# Altium footprint library TerminalBlock_Phoenix.PcbLib: 126 footprints (part 4 of 8)
Each footprint in its own frame and in the unit in brackets; x right, y up, seen from the top. Pads: shape width x height; smd on the part's side, far side on the other; paste and mask are expansions set on the pad; w line width, h text height; cw(c..) or ccw(c..) is an arc to the next point about the centre after c.
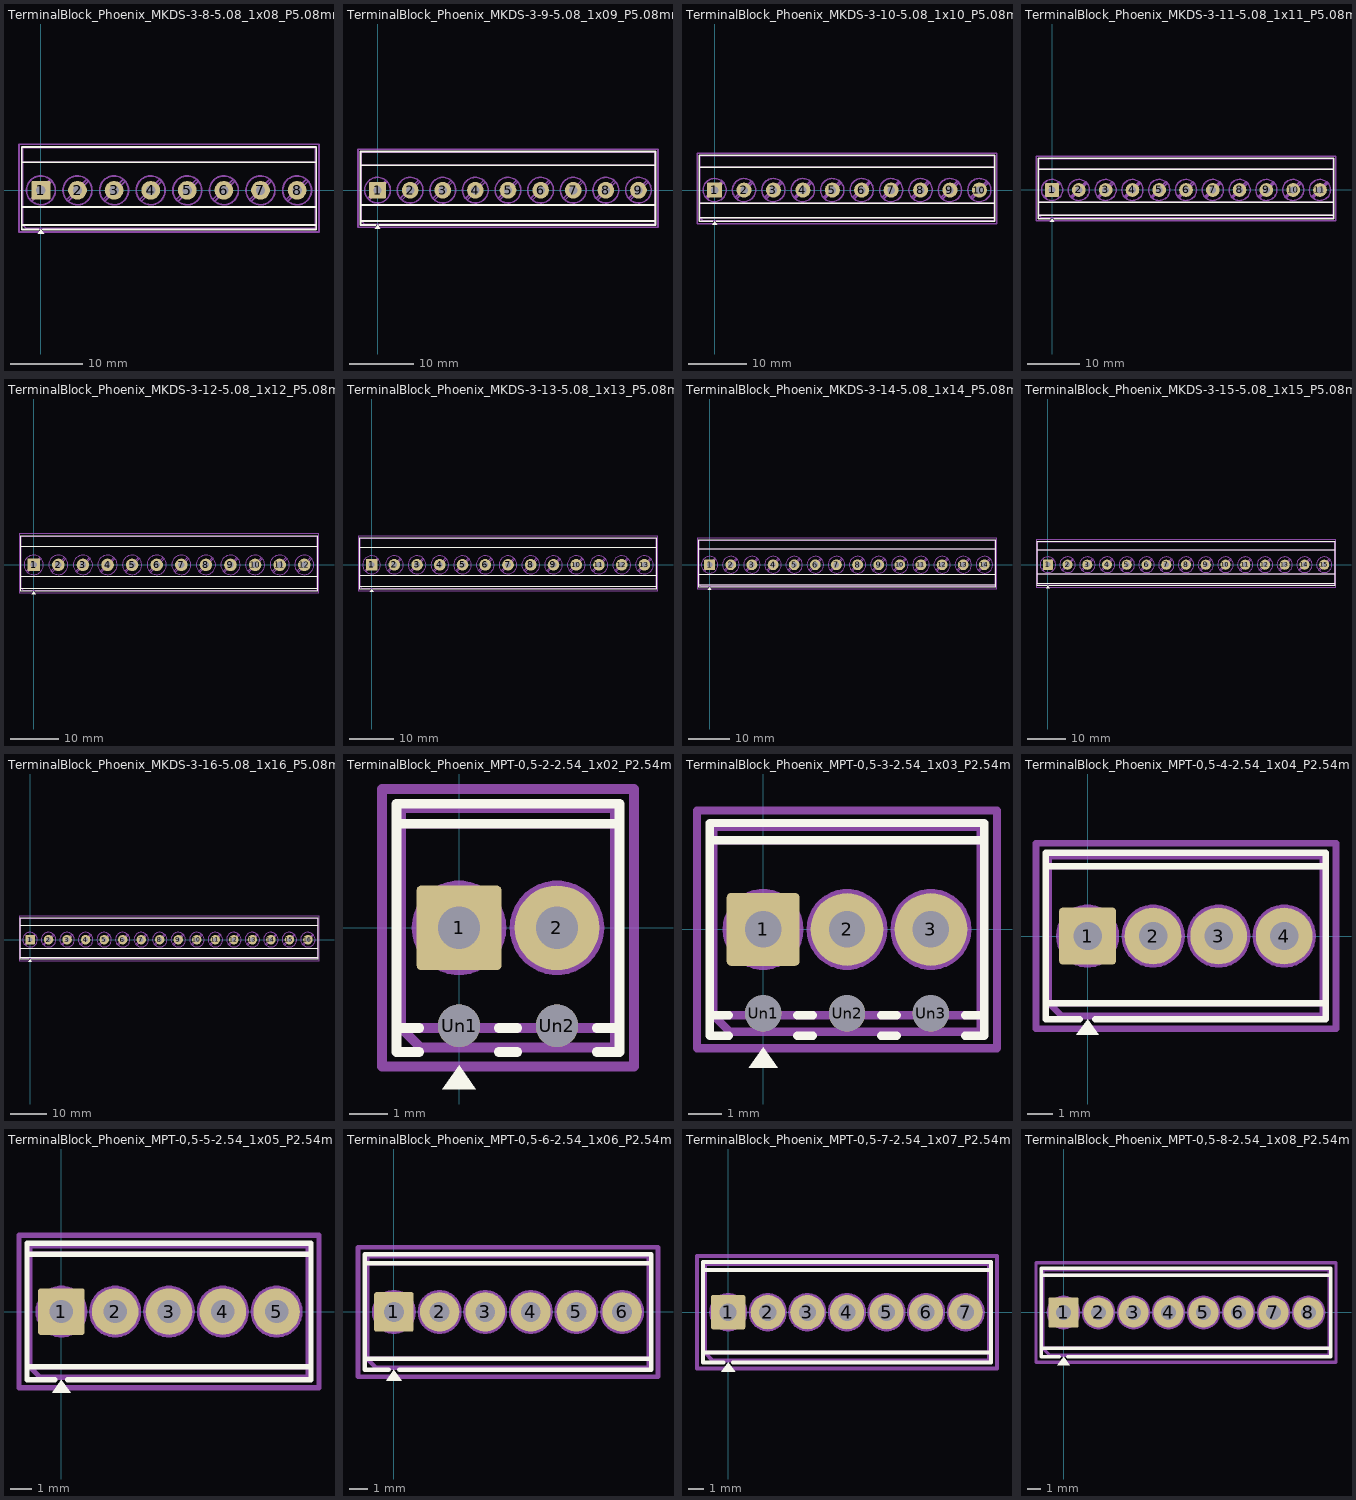
[diagram p3: the footprints below, top view; thin cyan lines are the x and y axes]

## TerminalBlock_Phoenix_MKDS-3-8-5.08_1x08_P5.08mm_Horizontal [mm]
pads (8):
  rrect10% 2.6x2.6 hole 1.3: 1(0,0)
  round 2.6 hole 1.3: 2(5.08,0) 3(10.16,0) 4(15.24,0) 5(20.32,0) 6(25.4,0) 7(30.48,0) 8(35.56,0)
F.SilkS:
  region: 0.44,-6.03 -0.44,-6.03 0,-5.42
  lines w0.254: -2.66,-4.8 38.22,-4.8 ; -2.66,-2.3 38.22,-2.3 ; -2.66,3.9 38.22,3.9 ; -0.3,-5.42 -2.66,-5.42 -2.66,6.02 38.22,6.02 38.22,-5.42 0.3,-5.42
F.Fab:
  circle w0.254: c0,0 r2
  circle w0.254: c5.08,0 r2
  circle w0.254: c10.16,0 r2
  circle w0.254: c15.24,0 r2
  circle w0.254: c20.32,0 r2
  circle w0.254: c25.4,0 r2
  circle w0.254: c30.48,0 r2
  circle w0.254: c35.56,0 r2
  lines w0.254: -2.54,-2.3 38.1,-2.3 ; -2.54,3.9 38.1,3.9 ; -1.517,-1.273 1.273,1.517 ; -1.273,-1.517 1.517,1.273 ; 3.563,-1.273 6.353,1.517 ; 3.807,-1.517 6.597,1.273 ; 8.643,-1.273 11.433,1.517 ; 8.887,-1.517 11.677,1.273 ; 13.723,-1.273 16.513,1.517 ; 13.967,-1.517 16.757,1.273 ; 18.803,-1.273 21.593,1.517 ; 19.047,-1.517 21.837,1.273 ; 23.883,-1.273 26.673,1.517 ; 24.127,-1.517 26.917,1.273 ; 28.963,-1.273 31.753,1.517 ; 29.207,-1.517 31.997,1.273 ; 34.043,-1.273 36.833,1.517 ; 34.287,-1.517 37.077,1.273 ; 38.1,-4.8 -2.54,-4.8 ; -2.54,-4.8 -2.54,5.9 38.1,5.9 38.1,-5.3 -2.04,-5.3 -2.54,-4.8
  text "'.Designator'" at 13.733,-3.94 h1
F.CrtYd:
  lines w0.254: -3.04,-5.8 -3.04,6.4 38.6,6.4 38.6,-5.8 -3.04,-5.8

## TerminalBlock_Phoenix_MKDS-3-9-5.08_1x09_P5.08mm_Horizontal [mm]
pads (9):
  rrect10% 2.6x2.6 hole 1.3: 1(0,0)
  round 2.6 hole 1.3: 2(5.08,0) 3(10.16,0) 4(15.24,0) 5(20.32,0) 6(25.4,0) 7(30.48,0) 8(35.56,0) 9(40.64,0)
F.SilkS:
  region: 0.44,-6.03 -0.44,-6.03 0,-5.42
  lines w0.254: -2.66,-4.8 43.3,-4.8 ; -2.66,-2.3 43.3,-2.3 ; -2.66,3.9 43.3,3.9 ; -0.3,-5.42 -2.66,-5.42 -2.66,6.02 43.3,6.02 43.3,-5.42 0.3,-5.42
F.Fab:
  circle w0.254: c0,0 r2
  circle w0.254: c5.08,0 r2
  circle w0.254: c10.16,0 r2
  circle w0.254: c15.24,0 r2
  circle w0.254: c20.32,0 r2
  circle w0.254: c25.4,0 r2
  circle w0.254: c30.48,0 r2
  circle w0.254: c35.56,0 r2
  circle w0.254: c40.64,0 r2
  lines w0.254: -2.54,-2.3 43.18,-2.3 ; -2.54,3.9 43.18,3.9 ; -1.517,-1.273 1.273,1.517 ; -1.273,-1.517 1.517,1.273 ; 3.563,-1.273 6.353,1.517 ; 3.807,-1.517 6.597,1.273 ; 8.643,-1.273 11.433,1.517 ; 8.887,-1.517 11.677,1.273 ; 13.723,-1.273 16.513,1.517 ; 13.967,-1.517 16.757,1.273 ; 18.803,-1.273 21.593,1.517 ; 19.047,-1.517 21.837,1.273 ; 23.883,-1.273 26.673,1.517 ; 24.127,-1.517 26.917,1.273 ; 28.963,-1.273 31.753,1.517 ; 29.207,-1.517 31.997,1.273 ; 34.043,-1.273 36.833,1.517 ; 34.287,-1.517 37.077,1.273 ; 39.123,-1.273 41.913,1.517 ; 39.367,-1.517 42.157,1.273 ; 43.18,-4.8 -2.54,-4.8 ; -2.54,-4.8 -2.54,5.9 43.18,5.9 43.18,-5.3 -2.04,-5.3 -2.54,-4.8
  text "'.Designator'" at 16.273,-3.94 h1
F.CrtYd:
  lines w0.254: -3.04,-5.8 -3.04,6.4 43.68,6.4 43.68,-5.8 -3.04,-5.8

## TerminalBlock_Phoenix_MKDS-3-10-5.08_1x10_P5.08mm_Horizontal [mm]
pads (10):
  rrect10% 2.6x2.6 hole 1.3: 1(0,0)
  round 2.6 hole 1.3: 2(5.08,0) 3(10.16,0) 4(15.24,0) 5(20.32,0) 6(25.4,0) 7(30.48,0) 8(35.56,0) 9(40.64,0) 10(45.72,0)
F.SilkS:
  region: 0.44,-6.03 -0.44,-6.03 0,-5.42
  lines w0.254: -2.66,-4.8 48.38,-4.8 ; -2.66,-2.3 48.38,-2.3 ; -2.66,3.9 48.38,3.9 ; -0.3,-5.42 -2.66,-5.42 -2.66,6.02 48.38,6.02 48.38,-5.42 0.3,-5.42
F.Fab:
  circle w0.254: c0,0 r2
  circle w0.254: c5.08,0 r2
  circle w0.254: c10.16,0 r2
  circle w0.254: c15.24,0 r2
  circle w0.254: c20.32,0 r2
  circle w0.254: c25.4,0 r2
  circle w0.254: c30.48,0 r2
  circle w0.254: c35.56,0 r2
  circle w0.254: c40.64,0 r2
  circle w0.254: c45.72,0 r2
  lines w0.254: -2.54,-2.3 48.26,-2.3 ; -2.54,3.9 48.26,3.9 ; -1.517,-1.273 1.273,1.517 ; -1.273,-1.517 1.517,1.273 ; 3.563,-1.273 6.353,1.517 ; 3.807,-1.517 6.597,1.273 ; 8.643,-1.273 11.433,1.517 ; 8.887,-1.517 11.677,1.273 ; 13.723,-1.273 16.513,1.517 ; 13.967,-1.517 16.757,1.273 ; 18.803,-1.273 21.593,1.517 ; 19.047,-1.517 21.837,1.273 ; 23.883,-1.273 26.673,1.517 ; 24.127,-1.517 26.917,1.273 ; 28.963,-1.273 31.753,1.517 ; 29.207,-1.517 31.997,1.273 ; 34.043,-1.273 36.833,1.517 ; 34.287,-1.517 37.077,1.273 ; 39.123,-1.273 41.913,1.517 ; 39.367,-1.517 42.157,1.273 ; 44.203,-1.273 46.993,1.517 ; 44.447,-1.517 47.237,1.273 ; 48.26,-4.8 -2.54,-4.8 ; -2.54,-4.8 -2.54,5.9 48.26,5.9 48.26,-5.3 -2.04,-5.3 -2.54,-4.8
  text "'.Designator'" at 18.813,-3.94 h1
F.CrtYd:
  lines w0.254: -3.04,-5.8 -3.04,6.4 48.76,6.4 48.76,-5.8 -3.04,-5.8

## TerminalBlock_Phoenix_MKDS-3-11-5.08_1x11_P5.08mm_Horizontal [mm]
pads (11):
  rrect10% 2.6x2.6 hole 1.3: 1(0,0)
  round 2.6 hole 1.3: 2(5.08,0) 3(10.16,0) 4(15.24,0) 5(20.32,0) 6(25.4,0) 7(30.48,0) 8(35.56,0) 9(40.64,0) 10(45.72,0) 11(50.8,0)
F.SilkS:
  region: 0.44,-6.03 -0.44,-6.03 0,-5.42
  lines w0.254: -2.66,-4.8 53.46,-4.8 ; -2.66,-2.3 53.46,-2.3 ; -2.66,3.9 53.46,3.9 ; -0.3,-5.42 -2.66,-5.42 -2.66,6.02 53.46,6.02 53.46,-5.42 0.3,-5.42
F.Fab:
  circle w0.254: c0,0 r2
  circle w0.254: c5.08,0 r2
  circle w0.254: c10.16,0 r2
  circle w0.254: c15.24,0 r2
  circle w0.254: c20.32,0 r2
  circle w0.254: c25.4,0 r2
  circle w0.254: c30.48,0 r2
  circle w0.254: c35.56,0 r2
  circle w0.254: c40.64,0 r2
  circle w0.254: c45.72,0 r2
  circle w0.254: c50.8,0 r2
  lines w0.254: -2.54,-2.3 53.34,-2.3 ; -2.54,3.9 53.34,3.9 ; -1.517,-1.273 1.273,1.517 ; -1.273,-1.517 1.517,1.273 ; 3.563,-1.273 6.353,1.517 ; 3.807,-1.517 6.597,1.273 ; 8.643,-1.273 11.433,1.517 ; 8.887,-1.517 11.677,1.273 ; 13.723,-1.273 16.513,1.517 ; 13.967,-1.517 16.757,1.273 ; 18.803,-1.273 21.593,1.517 ; 19.047,-1.517 21.837,1.273 ; 23.883,-1.273 26.673,1.517 ; 24.127,-1.517 26.917,1.273 ; 28.963,-1.273 31.753,1.517 ; 29.207,-1.517 31.997,1.273 ; 34.043,-1.273 36.833,1.517 ; 34.287,-1.517 37.077,1.273 ; 39.123,-1.273 41.913,1.517 ; 39.367,-1.517 42.157,1.273 ; 44.203,-1.273 46.993,1.517 ; 44.447,-1.517 47.237,1.273 ; 49.283,-1.273 52.073,1.517 ; 49.527,-1.517 52.317,1.273 ; 53.34,-4.8 -2.54,-4.8 ; -2.54,-4.8 -2.54,5.9 53.34,5.9 53.34,-5.3 -2.04,-5.3 -2.54,-4.8
  text "'.Designator'" at 21.353,-3.94 h1
F.CrtYd:
  lines w0.254: -3.04,-5.8 -3.04,6.4 53.84,6.4 53.84,-5.8 -3.04,-5.8

## TerminalBlock_Phoenix_MKDS-3-12-5.08_1x12_P5.08mm_Horizontal [mm]
pads (12):
  rrect10% 2.6x2.6 hole 1.3: 1(0,0)
  round 2.6 hole 1.3: 2(5.08,0) 3(10.16,0) 4(15.24,0) 5(20.32,0) 6(25.4,0) 7(30.48,0) 8(35.56,0) 9(40.64,0) 10(45.72,0) 11(50.8,0) 12(55.88,0)
F.SilkS:
  region: 0.44,-6.03 -0.44,-6.03 0,-5.42
  lines w0.254: -2.66,-4.8 58.54,-4.8 ; -2.66,-2.3 58.54,-2.3 ; -2.66,3.9 58.54,3.9 ; -0.3,-5.42 -2.66,-5.42 -2.66,6.02 58.54,6.02 58.54,-5.42 0.3,-5.42
F.Fab:
  circle w0.254: c0,0 r2
  circle w0.254: c5.08,0 r2
  circle w0.254: c10.16,0 r2
  circle w0.254: c15.24,0 r2
  circle w0.254: c20.32,0 r2
  circle w0.254: c25.4,0 r2
  circle w0.254: c30.48,0 r2
  circle w0.254: c35.56,0 r2
  circle w0.254: c40.64,0 r2
  circle w0.254: c45.72,0 r2
  circle w0.254: c50.8,0 r2
  circle w0.254: c55.88,0 r2
  lines w0.254: -2.54,-2.3 58.42,-2.3 ; -2.54,3.9 58.42,3.9 ; -1.517,-1.273 1.273,1.517 ; -1.273,-1.517 1.517,1.273 ; 3.563,-1.273 6.353,1.517 ; 3.807,-1.517 6.597,1.273 ; 8.643,-1.273 11.433,1.517 ; 8.887,-1.517 11.677,1.273 ; 13.723,-1.273 16.513,1.517 ; 13.967,-1.517 16.757,1.273 ; 18.803,-1.273 21.593,1.517 ; 19.047,-1.517 21.837,1.273 ; 23.883,-1.273 26.673,1.517 ; 24.127,-1.517 26.917,1.273 ; 28.963,-1.273 31.753,1.517 ; 29.207,-1.517 31.997,1.273 ; 34.043,-1.273 36.833,1.517 ; 34.287,-1.517 37.077,1.273 ; 39.123,-1.273 41.913,1.517 ; 39.367,-1.517 42.157,1.273 ; 44.203,-1.273 46.993,1.517 ; 44.447,-1.517 47.237,1.273 ; 49.283,-1.273 52.073,1.517 ; 49.527,-1.517 52.317,1.273 ; 54.363,-1.273 57.153,1.517 ; 54.607,-1.517 57.397,1.273 ; 58.42,-4.8 -2.54,-4.8 ; -2.54,-4.8 -2.54,5.9 58.42,5.9 58.42,-5.3 -2.04,-5.3 -2.54,-4.8
  text "'.Designator'" at 23.893,-3.94 h1
F.CrtYd:
  lines w0.254: -3.04,-5.8 -3.04,6.4 58.92,6.4 58.92,-5.8 -3.04,-5.8

## TerminalBlock_Phoenix_MKDS-3-13-5.08_1x13_P5.08mm_Horizontal [mm]
pads (13):
  rrect10% 2.6x2.6 hole 1.3: 1(0,0)
  round 2.6 hole 1.3: 2(5.08,0) 3(10.16,0) 4(15.24,0) 5(20.32,0) 6(25.4,0) 7(30.48,0) 8(35.56,0) 9(40.64,0) 10(45.72,0) 11(50.8,0) 12(55.88,0) 13(60.96,0)
F.SilkS:
  region: 0.44,-6.03 -0.44,-6.03 0,-5.42
  lines w0.254: -2.66,-4.8 63.62,-4.8 ; -2.66,-2.3 63.62,-2.3 ; -2.66,3.9 63.62,3.9 ; -0.3,-5.42 -2.66,-5.42 -2.66,6.02 63.62,6.02 63.62,-5.42 0.3,-5.42
F.Fab:
  circle w0.254: c0,0 r2
  circle w0.254: c5.08,0 r2
  circle w0.254: c10.16,0 r2
  circle w0.254: c15.24,0 r2
  circle w0.254: c20.32,0 r2
  circle w0.254: c25.4,0 r2
  circle w0.254: c30.48,0 r2
  circle w0.254: c35.56,0 r2
  circle w0.254: c40.64,0 r2
  circle w0.254: c45.72,0 r2
  circle w0.254: c50.8,0 r2
  circle w0.254: c55.88,0 r2
  circle w0.254: c60.96,0 r2
  lines w0.254: -2.54,-2.3 63.5,-2.3 ; -2.54,3.9 63.5,3.9 ; -1.517,-1.273 1.273,1.517 ; -1.273,-1.517 1.517,1.273 ; 3.563,-1.273 6.353,1.517 ; 3.807,-1.517 6.597,1.273 ; 8.643,-1.273 11.433,1.517 ; 8.887,-1.517 11.677,1.273 ; 13.723,-1.273 16.513,1.517 ; 13.967,-1.517 16.757,1.273 ; 18.803,-1.273 21.593,1.517 ; 19.047,-1.517 21.837,1.273 ; 23.883,-1.273 26.673,1.517 ; 24.127,-1.517 26.917,1.273 ; 28.963,-1.273 31.753,1.517 ; 29.207,-1.517 31.997,1.273 ; 34.043,-1.273 36.833,1.517 ; 34.287,-1.517 37.077,1.273 ; 39.123,-1.273 41.913,1.517 ; 39.367,-1.517 42.157,1.273 ; 44.203,-1.273 46.993,1.517 ; 44.447,-1.517 47.237,1.273 ; 49.283,-1.273 52.073,1.517 ; 49.527,-1.517 52.317,1.273 ; 54.363,-1.273 57.153,1.517 ; 54.607,-1.517 57.397,1.273 ; 59.443,-1.273 62.233,1.517 ; 59.687,-1.517 62.477,1.273 ; 63.5,-4.8 -2.54,-4.8 ; -2.54,-4.8 -2.54,5.9 63.5,5.9 63.5,-5.3 -2.04,-5.3 -2.54,-4.8
  text "'.Designator'" at 26.433,-3.94 h1
F.CrtYd:
  lines w0.254: -3.04,-5.8 -3.04,6.4 64,6.4 64,-5.8 -3.04,-5.8

## TerminalBlock_Phoenix_MKDS-3-14-5.08_1x14_P5.08mm_Horizontal [mm]
pads (14):
  rrect10% 2.6x2.6 hole 1.3: 1(0,0)
  round 2.6 hole 1.3: 2(5.08,0) 3(10.16,0) 4(15.24,0) 5(20.32,0) 6(25.4,0) 7(30.48,0) 8(35.56,0) 9(40.64,0) 10(45.72,0) 11(50.8,0) 12(55.88,0) 13(60.96,0) 14(66.04,0)
F.SilkS:
  region: 0.44,-6.03 -0.44,-6.03 0,-5.42
  lines w0.254: -2.66,-4.8 68.7,-4.8 ; -2.66,-2.3 68.7,-2.3 ; -2.66,3.9 68.7,3.9 ; -0.3,-5.42 -2.66,-5.42 -2.66,6.02 68.7,6.02 68.7,-5.42 0.3,-5.42
F.Fab:
  circle w0.254: c0,0 r2
  circle w0.254: c5.08,0 r2
  circle w0.254: c10.16,0 r2
  circle w0.254: c15.24,0 r2
  circle w0.254: c20.32,0 r2
  circle w0.254: c25.4,0 r2
  circle w0.254: c30.48,0 r2
  circle w0.254: c35.56,0 r2
  circle w0.254: c40.64,0 r2
  circle w0.254: c45.72,0 r2
  circle w0.254: c50.8,0 r2
  circle w0.254: c55.88,0 r2
  circle w0.254: c60.96,0 r2
  circle w0.254: c66.04,0 r2
  lines w0.254: -2.54,-2.3 68.58,-2.3 ; -2.54,3.9 68.58,3.9 ; -1.517,-1.273 1.273,1.517 ; -1.273,-1.517 1.517,1.273 ; 3.563,-1.273 6.353,1.517 ; 3.807,-1.517 6.597,1.273 ; 8.643,-1.273 11.433,1.517 ; 8.887,-1.517 11.677,1.273 ; 13.723,-1.273 16.513,1.517 ; 13.967,-1.517 16.757,1.273 ; 18.803,-1.273 21.593,1.517 ; 19.047,-1.517 21.837,1.273 ; 23.883,-1.273 26.673,1.517 ; 24.127,-1.517 26.917,1.273 ; 28.963,-1.273 31.753,1.517 ; 29.207,-1.517 31.997,1.273 ; 34.043,-1.273 36.833,1.517 ; 34.287,-1.517 37.077,1.273 ; 39.123,-1.273 41.913,1.517 ; 39.367,-1.517 42.157,1.273 ; 44.203,-1.273 46.993,1.517 ; 44.447,-1.517 47.237,1.273 ; 49.283,-1.273 52.073,1.517 ; 49.527,-1.517 52.317,1.273 ; 54.363,-1.273 57.153,1.517 ; 54.607,-1.517 57.397,1.273 ; 59.443,-1.273 62.233,1.517 ; 59.687,-1.517 62.477,1.273 ; 64.523,-1.273 67.313,1.517 ; 64.767,-1.517 67.557,1.273 ; 68.58,-4.8 -2.54,-4.8 ; -2.54,-4.8 -2.54,5.9 68.58,5.9 68.58,-5.3 -2.04,-5.3 -2.54,-4.8
  text "'.Designator'" at 28.973,-3.94 h1
F.CrtYd:
  lines w0.254: -3.04,-5.8 -3.04,6.4 69.08,6.4 69.08,-5.8 -3.04,-5.8

## TerminalBlock_Phoenix_MKDS-3-15-5.08_1x15_P5.08mm_Horizontal [mm]
pads (15):
  rrect10% 2.6x2.6 hole 1.3: 1(0,0)
  round 2.6 hole 1.3: 2(5.08,0) 3(10.16,0) 4(15.24,0) 5(20.32,0) 6(25.4,0) 7(30.48,0) 8(35.56,0) 9(40.64,0) 10(45.72,0) 11(50.8,0) 12(55.88,0) 13(60.96,0) 14(66.04,0) 15(71.12,0)
F.SilkS:
  region: 0.44,-6.03 -0.44,-6.03 0,-5.42
  lines w0.254: -2.66,-4.8 73.78,-4.8 ; -2.66,-2.3 73.78,-2.3 ; -2.66,3.9 73.78,3.9 ; -0.3,-5.42 -2.66,-5.42 -2.66,6.02 73.78,6.02 73.78,-5.42 0.3,-5.42
F.Fab:
  circle w0.254: c0,0 r2
  circle w0.254: c5.08,0 r2
  circle w0.254: c10.16,0 r2
  circle w0.254: c15.24,0 r2
  circle w0.254: c20.32,0 r2
  circle w0.254: c25.4,0 r2
  circle w0.254: c30.48,0 r2
  circle w0.254: c35.56,0 r2
  circle w0.254: c40.64,0 r2
  circle w0.254: c45.72,0 r2
  circle w0.254: c50.8,0 r2
  circle w0.254: c55.88,0 r2
  circle w0.254: c60.96,0 r2
  circle w0.254: c66.04,0 r2
  circle w0.254: c71.12,0 r2
  lines w0.254: -2.54,-2.3 73.66,-2.3 ; -2.54,3.9 73.66,3.9 ; -1.517,-1.273 1.273,1.517 ; -1.273,-1.517 1.517,1.273 ; 3.563,-1.273 6.353,1.517 ; 3.807,-1.517 6.597,1.273 ; 8.643,-1.273 11.433,1.517 ; 8.887,-1.517 11.677,1.273 ; 13.723,-1.273 16.513,1.517 ; 13.967,-1.517 16.757,1.273 ; 18.803,-1.273 21.593,1.517 ; 19.047,-1.517 21.837,1.273 ; 23.883,-1.273 26.673,1.517 ; 24.127,-1.517 26.917,1.273 ; 28.963,-1.273 31.753,1.517 ; 29.207,-1.517 31.997,1.273 ; 34.043,-1.273 36.833,1.517 ; 34.287,-1.517 37.077,1.273 ; 39.123,-1.273 41.913,1.517 ; 39.367,-1.517 42.157,1.273 ; 44.203,-1.273 46.993,1.517 ; 44.447,-1.517 47.237,1.273 ; 49.283,-1.273 52.073,1.517 ; 49.527,-1.517 52.317,1.273 ; 54.363,-1.273 57.153,1.517 ; 54.607,-1.517 57.397,1.273 ; 59.443,-1.273 62.233,1.517 ; 59.687,-1.517 62.477,1.273 ; 64.523,-1.273 67.313,1.517 ; 64.767,-1.517 67.557,1.273 ; 69.603,-1.273 72.393,1.517 ; 69.847,-1.517 72.637,1.273 ; 73.66,-4.8 -2.54,-4.8 ; -2.54,-4.8 -2.54,5.9 73.66,5.9 73.66,-5.3 -2.04,-5.3 -2.54,-4.8
  text "'.Designator'" at 31.513,-3.94 h1
F.CrtYd:
  lines w0.254: -3.04,-5.8 -3.04,6.4 74.16,6.4 74.16,-5.8 -3.04,-5.8

## TerminalBlock_Phoenix_MKDS-3-16-5.08_1x16_P5.08mm_Horizontal [mm]
pads (16):
  rrect10% 2.6x2.6 hole 1.3: 1(0,0)
  round 2.6 hole 1.3: 2(5.08,0) 3(10.16,0) 4(15.24,0) 5(20.32,0) 6(25.4,0) 7(30.48,0) 8(35.56,0) 9(40.64,0) 10(45.72,0) 11(50.8,0) 12(55.88,0) 13(60.96,0) 14(66.04,0) 15(71.12,0) 16(76.2,0)
F.SilkS:
  region: 0.44,-6.03 -0.44,-6.03 0,-5.42
  lines w0.254: -2.66,-4.8 78.86,-4.8 ; -2.66,-2.3 78.86,-2.3 ; -2.66,3.9 78.86,3.9 ; -0.3,-5.42 -2.66,-5.42 -2.66,6.02 78.86,6.02 78.86,-5.42 0.3,-5.42
F.Fab:
  circle w0.254: c0,0 r2
  circle w0.254: c5.08,0 r2
  circle w0.254: c10.16,0 r2
  circle w0.254: c15.24,0 r2
  circle w0.254: c20.32,0 r2
  circle w0.254: c25.4,0 r2
  circle w0.254: c30.48,0 r2
  circle w0.254: c35.56,0 r2
  circle w0.254: c40.64,0 r2
  circle w0.254: c45.72,0 r2
  circle w0.254: c50.8,0 r2
  circle w0.254: c55.88,0 r2
  circle w0.254: c60.96,0 r2
  circle w0.254: c66.04,0 r2
  circle w0.254: c71.12,0 r2
  circle w0.254: c76.2,0 r2
  lines w0.254: -2.54,-2.3 78.74,-2.3 ; -2.54,3.9 78.74,3.9 ; -1.517,-1.273 1.273,1.517 ; -1.273,-1.517 1.517,1.273 ; 3.563,-1.273 6.353,1.517 ; 3.807,-1.517 6.597,1.273 ; 8.643,-1.273 11.433,1.517 ; 8.887,-1.517 11.677,1.273 ; 13.723,-1.273 16.513,1.517 ; 13.967,-1.517 16.757,1.273 ; 18.803,-1.273 21.593,1.517 ; 19.047,-1.517 21.837,1.273 ; 23.883,-1.273 26.673,1.517 ; 24.127,-1.517 26.917,1.273 ; 28.963,-1.273 31.753,1.517 ; 29.207,-1.517 31.997,1.273 ; 34.043,-1.273 36.833,1.517 ; 34.287,-1.517 37.077,1.273 ; 39.123,-1.273 41.913,1.517 ; 39.367,-1.517 42.157,1.273 ; 44.203,-1.273 46.993,1.517 ; 44.447,-1.517 47.237,1.273 ; 49.283,-1.273 52.073,1.517 ; 49.527,-1.517 52.317,1.273 ; 54.363,-1.273 57.153,1.517 ; 54.607,-1.517 57.397,1.273 ; 59.443,-1.273 62.233,1.517 ; 59.687,-1.517 62.477,1.273 ; 64.523,-1.273 67.313,1.517 ; 64.767,-1.517 67.557,1.273 ; 69.603,-1.273 72.393,1.517 ; 69.847,-1.517 72.637,1.273 ; 74.683,-1.273 77.473,1.517 ; 74.927,-1.517 77.717,1.273 ; 78.74,-4.8 -2.54,-4.8 ; -2.54,-4.8 -2.54,5.9 78.74,5.9 78.74,-5.3 -2.04,-5.3 -2.54,-4.8
  text "'.Designator'" at 34.053,-3.94 h1
F.CrtYd:
  lines w0.254: -3.04,-5.8 -3.04,6.4 79.24,6.4 79.24,-5.8 -3.04,-5.8

## TerminalBlock_Phoenix_MPT-0,5-2-2.54_1x02_P2.54mm_Horizontal [mm]
pads (4):
  rrect11% 2.2x2.2 hole 1.1: 1(0,0)
  round 2.2 hole 1.1: 2(2.54,0)
  round 1.1 hole 1.1: Un1(0,-2.54) Un2(2.54,-2.54)
F.SilkS:
  region: 0.44,-4.18 -0.44,-4.18 0,-3.57
  lines w0.254: -1.62,-2.6 -1.03,-2.6 ; -1.62,2.7 4.16,2.7 ; -1.03,-3.22 -1.62,-3.22 -1.62,3.22 4.16,3.22 4.16,-3.22 3.57,-3.22 ; 1.03,-3.22 1.51,-3.22 ; 1.03,-2.6 1.51,-2.6 ; 3.57,-2.6 4.16,-2.6
F.Fab:
  circle w0.254: c0,0 r1.1
  circle w0.254: c2.54,0 r1.1
  lines w0.254: -1.5,2.7 4.04,2.7 ; -0.834,-0.7 0.7,0.834 ; -0.7,-0.834 0.834,0.7 ; 1.706,-0.7 3.24,0.834 ; 1.84,-0.834 3.374,0.7 ; 4.04,-2.6 -1.5,-2.6 ; -1.5,-2.6 -1.5,3.1 4.04,3.1 4.04,-3.1 -1,-3.1 -1.5,-2.6
  text "'.Designator'" at -2.777,-2.84 h1
F.CrtYd:
  lines w0.254: -2,-3.6 -2,3.6 4.54,3.6 4.54,-3.6 -2,-3.6

## TerminalBlock_Phoenix_MPT-0,5-3-2.54_1x03_P2.54mm_Horizontal [mm]
pads (6):
  rrect11% 2.2x2.2 hole 1.1: 1(0,0)
  round 2.2 hole 1.1: 2(2.54,0) 3(5.08,0)
  round 1.1 hole 1.1: Un1(0,-2.54) Un2(2.54,-2.54) Un3(5.08,-2.54)
F.SilkS:
  region: 0.44,-4.18 -0.44,-4.18 0,-3.57
  lines w0.254: -1.62,-2.6 -1.03,-2.6 ; -1.62,2.7 6.7,2.7 ; -1.03,-3.22 -1.62,-3.22 -1.62,3.22 6.7,3.22 6.7,-3.22 6.11,-3.22 ; 1.03,-3.22 1.51,-3.22 ; 1.03,-2.6 1.51,-2.6 ; 3.57,-3.22 4.05,-3.22 ; 3.57,-2.6 4.05,-2.6 ; 6.11,-2.6 6.7,-2.6
F.Fab:
  circle w0.254: c0,0 r1.1
  circle w0.254: c2.54,0 r1.1
  circle w0.254: c5.08,0 r1.1
  lines w0.254: -1.5,2.7 6.58,2.7 ; -0.834,-0.7 0.7,0.834 ; -0.7,-0.834 0.834,0.7 ; 1.706,-0.7 3.24,0.834 ; 1.84,-0.834 3.374,0.7 ; 4.246,-0.7 5.78,0.834 ; 4.38,-0.834 5.914,0.7 ; 6.58,-2.6 -1.5,-2.6 ; -1.5,-2.6 -1.5,3.1 6.58,3.1 6.58,-3.1 -1,-3.1 -1.5,-2.6
  text "'.Designator'" at -1.507,-2.84 h1
F.CrtYd:
  lines w0.254: -2,-3.6 -2,3.6 7.08,3.6 7.08,-3.6 -2,-3.6

## TerminalBlock_Phoenix_MPT-0,5-4-2.54_1x04_P2.54mm_Horizontal [mm]
pads (4):
  rrect11% 2.2x2.2 hole 1.1: 1(0,0)
  round 2.2 hole 1.1: 2(2.54,0) 3(5.08,0) 4(7.62,0)
F.SilkS:
  region: 0.44,-3.83 -0.44,-3.83 0,-3.22
  lines w0.254: -1.62,-2.6 9.24,-2.6 ; -1.62,2.7 9.24,2.7 ; -0.3,-3.22 -1.62,-3.22 -1.62,3.22 9.24,3.22 9.24,-3.22 0.3,-3.22
F.Fab:
  circle w0.254: c0,0 r1.1
  circle w0.254: c2.54,0 r1.1
  circle w0.254: c5.08,0 r1.1
  circle w0.254: c7.62,0 r1.1
  lines w0.254: -1.5,2.7 9.12,2.7 ; -0.834,-0.7 0.7,0.834 ; -0.7,-0.834 0.834,0.7 ; 1.706,-0.7 3.24,0.834 ; 1.84,-0.834 3.374,0.7 ; 4.246,-0.7 5.78,0.834 ; 4.38,-0.834 5.914,0.7 ; 6.786,-0.7 8.32,0.834 ; 6.92,-0.834 8.454,0.7 ; 9.12,-2.6 -1.5,-2.6 ; -1.5,-2.6 -1.5,3.1 9.12,3.1 9.12,-3.1 -1,-3.1 -1.5,-2.6
  text "'.Designator'" at -0.237,-2.84 h1
F.CrtYd:
  lines w0.254: -2,-3.6 -2,3.6 9.63,3.6 9.63,-3.6 -2,-3.6

## TerminalBlock_Phoenix_MPT-0,5-5-2.54_1x05_P2.54mm_Horizontal [mm]
pads (5):
  rrect11% 2.2x2.2 hole 1.1: 1(0,0)
  round 2.2 hole 1.1: 2(2.54,0) 3(5.08,0) 4(7.62,0) 5(10.16,0)
F.SilkS:
  region: 0.44,-3.83 -0.44,-3.83 0,-3.22
  lines w0.254: -1.62,-2.6 11.78,-2.6 ; -1.62,2.7 11.78,2.7 ; -0.3,-3.22 -1.62,-3.22 -1.62,3.22 11.78,3.22 11.78,-3.22 0.3,-3.22
F.Fab:
  circle w0.254: c0,0 r1.1
  circle w0.254: c2.54,0 r1.1
  circle w0.254: c5.08,0 r1.1
  circle w0.254: c7.62,0 r1.1
  circle w0.254: c10.16,0 r1.1
  lines w0.254: -1.5,2.7 11.66,2.7 ; -0.834,-0.7 0.7,0.834 ; -0.7,-0.834 0.834,0.7 ; 1.706,-0.7 3.24,0.834 ; 1.84,-0.834 3.374,0.7 ; 4.246,-0.7 5.78,0.834 ; 4.38,-0.834 5.914,0.7 ; 6.786,-0.7 8.32,0.834 ; 6.92,-0.834 8.454,0.7 ; 9.326,-0.7 10.86,0.834 ; 9.46,-0.834 10.994,0.7 ; 11.66,-2.6 -1.5,-2.6 ; -1.5,-2.6 -1.5,3.1 11.66,3.1 11.66,-3.1 -1,-3.1 -1.5,-2.6
  text "'.Designator'" at 1.033,-2.84 h1
F.CrtYd:
  lines w0.254: -2,-3.6 -2,3.6 12.16,3.6 12.16,-3.6 -2,-3.6

## TerminalBlock_Phoenix_MPT-0,5-6-2.54_1x06_P2.54mm_Horizontal [mm]
pads (6):
  rrect11% 2.2x2.2 hole 1.1: 1(0,0)
  round 2.2 hole 1.1: 2(2.54,0) 3(5.08,0) 4(7.62,0) 5(10.16,0) 6(12.7,0)
F.SilkS:
  region: 0.44,-3.83 -0.44,-3.83 0,-3.22
  lines w0.254: -1.62,-2.6 14.32,-2.6 ; -1.62,2.7 14.32,2.7 ; -0.3,-3.22 -1.62,-3.22 -1.62,3.22 14.32,3.22 14.32,-3.22 0.3,-3.22
F.Fab:
  circle w0.254: c0,0 r1.1
  circle w0.254: c2.54,0 r1.1
  circle w0.254: c5.08,0 r1.1
  circle w0.254: c7.62,0 r1.1
  circle w0.254: c10.16,0 r1.1
  circle w0.254: c12.7,0 r1.1
  lines w0.254: -1.5,2.7 14.2,2.7 ; -0.834,-0.7 0.7,0.834 ; -0.7,-0.834 0.834,0.7 ; 1.706,-0.7 3.24,0.834 ; 1.84,-0.834 3.374,0.7 ; 4.246,-0.7 5.78,0.834 ; 4.38,-0.834 5.914,0.7 ; 6.786,-0.7 8.32,0.834 ; 6.92,-0.834 8.454,0.7 ; 9.326,-0.7 10.86,0.834 ; 9.46,-0.834 10.994,0.7 ; 11.866,-0.7 13.4,0.834 ; 12,-0.834 13.534,0.7 ; 14.2,-2.6 -1.5,-2.6 ; -1.5,-2.6 -1.5,3.1 14.2,3.1 14.2,-3.1 -1,-3.1 -1.5,-2.6
  text "'.Designator'" at 2.303,-2.84 h1
F.CrtYd:
  lines w0.254: -2,-3.6 -2,3.6 14.7,3.6 14.7,-3.6 -2,-3.6

## TerminalBlock_Phoenix_MPT-0,5-7-2.54_1x07_P2.54mm_Horizontal [mm]
pads (7):
  rrect11% 2.2x2.2 hole 1.1: 1(0,0)
  round 2.2 hole 1.1: 2(2.54,0) 3(5.08,0) 4(7.62,0) 5(10.16,0) 6(12.7,0) 7(15.24,0)
F.SilkS:
  region: 0.44,-3.83 -0.44,-3.83 0,-3.22
  lines w0.254: -1.62,-2.6 16.86,-2.6 ; -1.62,2.7 16.86,2.7 ; -0.3,-3.22 -1.62,-3.22 -1.62,3.22 16.86,3.22 16.86,-3.22 0.3,-3.22
F.Fab:
  circle w0.254: c0,0 r1.1
  circle w0.254: c2.54,0 r1.1
  circle w0.254: c5.08,0 r1.1
  circle w0.254: c7.62,0 r1.1
  circle w0.254: c10.16,0 r1.1
  circle w0.254: c12.7,0 r1.1
  circle w0.254: c15.24,0 r1.1
  lines w0.254: -1.5,2.7 16.74,2.7 ; -0.834,-0.7 0.7,0.834 ; -0.7,-0.834 0.834,0.7 ; 1.706,-0.7 3.24,0.834 ; 1.84,-0.834 3.374,0.7 ; 4.246,-0.7 5.78,0.834 ; 4.38,-0.834 5.914,0.7 ; 6.786,-0.7 8.32,0.834 ; 6.92,-0.834 8.454,0.7 ; 9.326,-0.7 10.86,0.834 ; 9.46,-0.834 10.994,0.7 ; 11.866,-0.7 13.4,0.834 ; 12,-0.834 13.534,0.7 ; 14.406,-0.7 15.94,0.834 ; 14.54,-0.834 16.074,0.7 ; 16.74,-2.6 -1.5,-2.6 ; -1.5,-2.6 -1.5,3.1 16.74,3.1 16.74,-3.1 -1,-3.1 -1.5,-2.6
  text "'.Designator'" at 3.573,-2.84 h1
F.CrtYd:
  lines w0.254: -2,-3.6 -2,3.6 17.25,3.6 17.25,-3.6 -2,-3.6

## TerminalBlock_Phoenix_MPT-0,5-8-2.54_1x08_P2.54mm_Horizontal [mm]
pads (8):
  rrect11% 2.2x2.2 hole 1.1: 1(0,0)
  round 2.2 hole 1.1: 2(2.54,0) 3(5.08,0) 4(7.62,0) 5(10.16,0) 6(12.7,0) 7(15.24,0) 8(17.78,0)
F.SilkS:
  region: 0.44,-3.83 -0.44,-3.83 0,-3.22
  lines w0.254: -1.62,-2.6 19.4,-2.6 ; -1.62,2.7 19.4,2.7 ; -0.3,-3.22 -1.62,-3.22 -1.62,3.22 19.4,3.22 19.4,-3.22 0.3,-3.22
F.Fab:
  circle w0.254: c0,0 r1.1
  circle w0.254: c2.54,0 r1.1
  circle w0.254: c5.08,0 r1.1
  circle w0.254: c7.62,0 r1.1
  circle w0.254: c10.16,0 r1.1
  circle w0.254: c12.7,0 r1.1
  circle w0.254: c15.24,0 r1.1
  circle w0.254: c17.78,0 r1.1
  lines w0.254: -1.5,2.7 19.28,2.7 ; -0.834,-0.7 0.7,0.834 ; -0.7,-0.834 0.834,0.7 ; 1.706,-0.7 3.24,0.834 ; 1.84,-0.834 3.374,0.7 ; 4.246,-0.7 5.78,0.834 ; 4.38,-0.834 5.914,0.7 ; 6.786,-0.7 8.32,0.834 ; 6.92,-0.834 8.454,0.7 ; 9.326,-0.7 10.86,0.834 ; 9.46,-0.834 10.994,0.7 ; 11.866,-0.7 13.4,0.834 ; 12,-0.834 13.534,0.7 ; 14.406,-0.7 15.94,0.834 ; 14.54,-0.834 16.074,0.7 ; 16.946,-0.7 18.48,0.834 ; 17.08,-0.834 18.614,0.7 ; 19.28,-2.6 -1.5,-2.6 ; -1.5,-2.6 -1.5,3.1 19.28,3.1 19.28,-3.1 -1,-3.1 -1.5,-2.6
  text "'.Designator'" at 4.843,-2.84 h1
F.CrtYd:
  lines w0.254: -2,-3.6 -2,3.6 19.78,3.6 19.78,-3.6 -2,-3.6